# Altium footprint library NTC_MF52.PcbLib: 1 footprints
Each footprint in its own frame and in the unit in brackets; x right, y up, seen from the top. Pads: shape width x height; smd on the part's side, far side on the other; paste and mask are expansions set on the pad; w line width, h text height; cw(c..) or ccw(c..) is an arc to the next point about the centre after c.
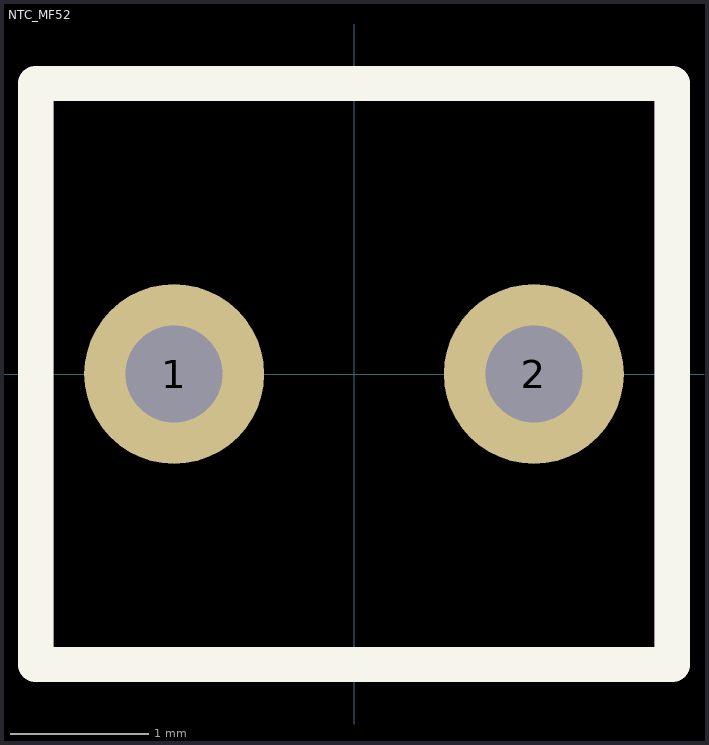
[diagram p0: the footprint, top view; thin cyan lines are the x and y axes]

## NTC_MF52 [mm]
pads (2):
  round 1.3 hole 0.7: 1(-1.3,0) 2(1.3,0)
Top Overlay:
  lines w0.254: -2.3,-2.1 2.3,-2.1 2.3,2.1 -2.3,2.1 -2.3,-2.1
Top Assembly:
  lines w0.254: -2.3,-2.1 2.3,-2.1 2.3,2.1 1.134,2.1 -1.134,2.1 -2.3,2.1 -2.3,-2.1
  text "'.Designator'" at 0,0 h0.5
3D body "Vishay Intertechnology-NTCLE203E3103SB0 10k.STEP": height 33, standoff -14, extent -2.099,-2 2.082,2